# Altium schematic symbol library capsense.SchLib: 1 symbol
Pins are listed as number, name and electrical type; pins without a type are passive.

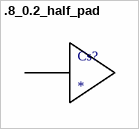
[diagram p0: symbol .8_0.2_half_pad]

## .8_0.2_half_pad
designator Cs?
footprint 2.8_0.2_half_pad (2.8 mm side length, 0.2mm spacing between electrodes, 3mm per signal line total)
pins: 1